# Altium integrated library BRC2012T2R2MD.IntLib: 1 symbol
Pins are listed as number, name and electrical type; pins without a type are passive.

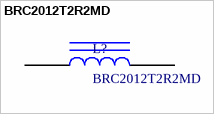
[diagram p0: symbol BRC2012T2R2MD]

## BRC2012T2R2MD
designator L?
Wire-Wound chip power inductor, 2012(metric), Taiyo Yuden
footprint INDC2012X10N (Chip Inductor, 2-Leads, Body 2.00x1.25mm, IPC Medium Density)
pins: 1, 2